# Altium footprint library SMD SMD-Series.PcbLib: 12 footprints
Each footprint in its own frame and in the unit in brackets; x right, y up, seen from the top. Pads: shape width x height; smd on the part's side, far side on the other; paste and mask are expansions set on the pad; w line width, h text height; cw(c..) or ccw(c..) is an arc to the next point about the centre after c.
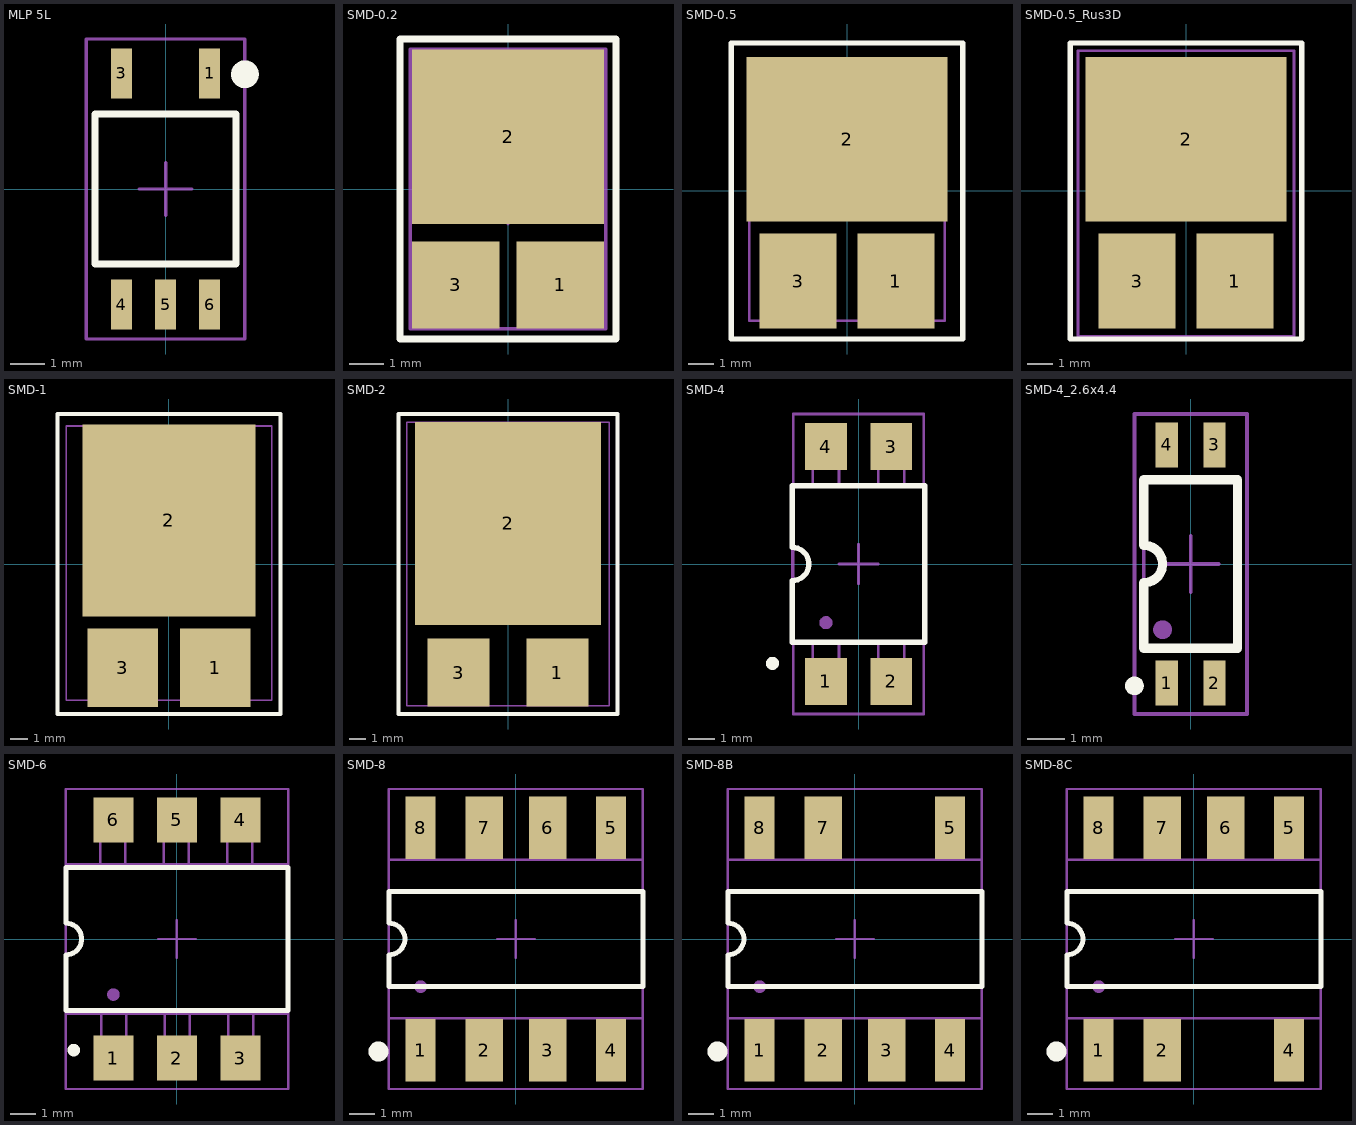
[diagram p0: the footprints below, top view; thin cyan lines are the x and y axes]

## MLP 5L [mm]
height 2.4
pads (5):
  rect 0.61x1.45 smd: 1(1.27,3.325) 3(-1.27,3.325) 4(-1.27,-3.325) 5(0,-3.325) 6(1.27,-3.325)
Top Overlay:
  circle w0.4: c2.286,3.302 r0.2
  lines w0.2: -2.032,-2.159 -2.032,2.159 2.032,2.159 2.032,-2.159 -2.032,-2.159
Mechanical 7:
  text ".Designator" at -1.016,-0.508 h1.5
Mechanical 15:
  lines w0.1: -0.75,0 0.75,0 ; 0,-0.75 0,0.75 ; -2.286,-4.318 -2.286,4.318 2.286,4.318 2.286,-4.318 -2.286,-4.318
3D body "MLP_5L.STEP": height 2.13, standoff 0, extent -2.05,-3.5 2.05,3.5

## SMD-0.2 [mm]
height 3.06
pads (3):
  rect 2.5x2.5 smd: 1(1.5,-2.75) 3(-1.5,-2.75)
  rect 5.5x5 smd: 2(0,1.5)
Top Overlay:
  lines w0.2: -3.1,-4.3 -3.1,4.3 3.1,4.3 3.1,-4.3 -3.1,-4.3
Mechanical 7:
  lines w0.05: -3.1,-4.3 3.1,-4.3 3.1,4.3 -3.1,4.3 -3.1,-4.3
  text ".Designator" at -2,-0.5 h1.5
Mechanical 13:
  lines w0.1: -2.8,-4 -2.8,4 2.8,4 2.8,-4 -2.8,-4
  text "Check!" at -3.75,-0.5 h1.52
Mechanical 15:
  lines w0.1: -1,0 1,0 ; 0,-1 0,1 ; -3.1,-4.3 3.1,-4.3 3.1,4.3 -3.1,4.3 -3.1,-4.3
3D body "User Library-International Rectifier Case SMD-02 model.step": height 2.5, standoff -0.02, extent -2.875,-4.075 2.865,4.075

## SMD-0.5 [mm] "室-93"
height 3.06
pads (3):
  rect 3x3.7 smd: 1(1.905,-3.51) 3(-1.905,-3.51)
  rect 7.8x6.4 smd: 2(0,2.01)
Top Overlay:
  lines w0.2: -4.5,-5.76 4.5,-5.76 4.5,5.75 -4.5,5.75 -4.5,-5.76
Mechanical 7:
  lines w0.05: -4.5,-5.76 4.5,-5.76 4.5,5.75 -4.5,5.75 -4.5,-5.76
  text ".Designator" at -2,-0.5 h1.5
Mechanical 13:
  lines w0.1: -3.8,-5.05 3.8,-5.05 3.8,5.05 -3.8,5.05 -3.8,-5.05
Mechanical 15:
  lines w0.1: -1,0 1,0 ; 0,-1 0,1 ; -4.5,-5.75 -4.5,5.75 4.5,5.75 4.5,-5.75 -4.5,-5.75
3D body "User Library-IR_SMD_0_5.STEP": height 3.1, standoff -0.02, extent -3.76,-5.08 3.76,5.08

## SMD-0.5_Rus3D [mm] "室-93"
height 3.06
pads (3):
  rect 3x3.7 smd: 1(1.905,-3.51) 3(-1.905,-3.51)
  rect 7.8x6.4 smd: 2(0,2.01)
Top Overlay:
  lines w0.2: -4.5,-5.76 -4.5,5.75 4.5,5.75 4.5,-5.76 -4.5,-5.76
Mechanical 7:
  lines w0.05: -4.5,-5.76 4.5,-5.76 4.5,5.75 -4.5,5.75 -4.5,-5.76
  text ".Designator" at -2,-0.5 h1.5
Mechanical 13:
  lines w0.1: -4.2,-5.65 4.2,-5.65 4.2,5.45 -4.2,5.45 -4.2,-5.65
Mechanical 15:
  lines w0.1: -1,0 1,0 ; 0,-1 0,1 ; -4.5,-5.75 -4.5,5.75 4.5,5.75 4.5,-5.75 -4.5,-5.75
3D body: height 0.4, standoff 0, extent 0.5,-5.5 3.5,-1.75
3D body: height 0.4, standoff 0, extent -3.5,-5.5 -0.5,-1.75
3D body: height 3, standoff 0.4, extent -4.25,-5.75 4.25,5.5
3D body: height 0.4, standoff 0, extent -4,-1.25 4,5.25
3D body: height 3.05, standoff 3, extent -4.25,-5.75 4.25,5.5
3D body: height 3.4, standoff 3.05, extent -4.25,-5.75 4.25,5.5
3D body: height 3.6, standoff 3.4, extent -4.25,-5.75 4.25,5.5

## SMD-1 [mm] "室-94"
height 3.6
pads (3):
  rect 4.1x4.6 smd: 1(2.7,-6.05) 3(-2.7,-6.05)
  rect 10.1x11.2 smd: 2(0,2.55)
Top Overlay:
  lines w0.25: -6.5,-8.75 -6.5,8.75 6.5,8.75 6.5,-8.75 -6.5,-8.75
Mechanical 7:
  lines w0.05: -6.5,-8.75 -6.5,8.75 6.5,8.75 6.5,-8.75 -6.5,-8.75
  text ".Designator" at -2.5,0 h1.5
Mechanical 13:
  lines w0.1: -6,-7.95 6,-7.95 6,8.05 -6,8.05 -6,-7.95
Mechanical 15:
  lines w0.1: -1,0 1,0 ; 0,-1 0,1 ; -6.5,-8.75 -6.5,8.75 6.5,8.75 6.5,-8.75 -6.5,-8.75
3D body "室-94.STEP": height 3.6, standoff 0, extent -5.75,-8 5.83,8

## SMD-2 [mm] "室-95"
height 3.6
pads (3):
  rect 3.8x4.2 smd: 1(3.05,-6.7) 3(-3.05,-6.7)
  rect 11.5x12.5 smd: 2(0,2.5)
Top Overlay:
  lines w0.25: -6.75,-9.25 -6.75,9.25 6.75,9.25 6.75,-9.25 -6.75,-9.25
Mechanical 7:
  lines w0.05: -6.75,-9.25 6.75,-9.25 6.75,9.25 -6.75,9.25 -6.75,-9.25
  text ".Designator" at -2.5,0 h1.5
Mechanical 13:
  lines w0.1: -6.25,-8.75 6.25,-8.75 6.25,8.75 -6.25,8.75 -6.25,-8.75
Mechanical 15:
  lines w0.1: -1,0 1,0 ; 0,-1 0,1 ; -6.75,-9.25 6.75,-9.25 6.75,9.25 -6.75,9.25 -6.75,-9.25
3D body "User Library-KT-95-1.step": height 3.6, standoff 0, extent -6.7,-8.8 6.7,8.8

## SMD-4 [mm]
height 4.58
pads (4):
  rect 1.6x1.8 smd: 1(-1.25,-4.5) 2(1.25,-4.5) 3(1.25,4.5) 4(-1.25,4.5)
Top Overlay:
  circle w0.25: c-3.3,-3.81 r0.125
  lines w0.2: -2.54,-3 -2.54,-0.635 ccw(c-2.54,0) -2.54,0.635 -2.54,3 2.54,3 2.54,-3 -2.54,-3
Mechanical 7:
  lines w0.05: -2.5,-5.75 -2.5,5.75 2.5,5.75 2.5,-5.75 -2.5,-5.75
  text ".Designator" at -2.25,-0.25 h1.5
Mechanical 13:
  circle w0.25: c-1.25,-2.25 r0.125
  lines w0.1: -1.75,-3 -1.75,-4.75 -0.75,-4.75 -0.75,-3 ; -1.75,3 -1.75,4.75 -0.75,4.75 -0.75,3 ; 0.75,-3 0.75,-4.75 1.75,-4.75 1.75,-3 ; 0.75,3 0.75,4.75 1.75,4.75 1.75,3 ; -2.54,-3 -2.54,3 2.54,3 2.54,-3 -2.54,-3
Mechanical 15:
  lines w0.1: -0.75,0 0.75,0 ; 0,-0.75 0,0.75 ; -2.5,-5.75 2.5,-5.75 2.5,5.75 -2.5,5.75 -2.5,-5.75
3D body "User Library-PC817_Gullwing.STEP": height 3.85, standoff 0, extent -2.29,-5 2.29,5

## SMD-4_2.6x4.4 [mm]
height 2
pads (4):
  rect 0.6x1.2 smd: 1(-0.635,-3.175) 2(0.635,-3.175) 3(0.635,3.175) 4(-0.635,3.175)
Top Overlay:
  circle w0.25: c-1.5,-3.25 r0.125
  lines w0.25: -1.25,-2.25 -1.25,-0.5 ccw(c-1.25,0) -1.25,0.5 -1.25,2.25 1.25,2.25 1.25,-2.25 -1.25,-2.25
Mechanical 7:
  lines w0.05: -1.5,-4 -1.5,4 1.5,4 1.5,-4 -1.5,-4
  text ".Designator" at -1.25,-0.25 h1.2
Mechanical 13:
  circle w0.25: c-0.75,-1.75 r0.125
  lines w0.1: -1.25,-2.25 -1.25,2.25 1.25,2.25 1.25,-2.25 -1.25,-2.25
Mechanical 15:
  lines w0.1: -0.75,0 0.75,0 ; 0,-0.75 0,0.75 ; -1.5,-4 1.5,-4 1.5,4 -1.5,4 -1.5,-4
3D body "User Library-PC3H7.step": height 2.02, standoff -0.03, extent -1.3,-3.5 1.3,3.5

## SMD-6 [mm]
height 4.58
pads (6):
  rect 1.6x1.8 smd: 1(-2.54,-4.763) 2(0,-4.763) 3(2.54,-4.763) 4(2.54,4.763) 5(0,4.763) 6(-2.54,4.763)
Top Overlay:
  circle w0.25: c-4.127,-4.445 r0.125
  lines w0.2: -4.445,-2.857 -4.445,-0.635 ccw(c-4.445,0) -4.445,0.635 -4.445,2.857 4.445,2.857 4.445,-2.857 -4.445,-2.857
Mechanical 7:
  lines w0.05: -4.445,-6 -4.445,6 4.445,6 4.445,-6 -4.445,-6
  text ".Designator" at -2.25,-0.25 h1.5
Mechanical 13:
  circle w0.25: c-2.54,-2.222 r0.125
  lines w0.1: -3.06,3 -3.06,4.75 -2.06,4.75 -2.06,3 ; -3.02,-3 -3.02,-4.75 -2.02,-4.75 -2.02,-3 ; -0.52,3 -0.52,4.75 0.48,4.75 0.48,3 ; -0.48,-3 -0.48,-4.75 0.52,-4.75 0.52,-3 ; 2.02,3 2.02,4.75 3.02,4.75 3.02,3 ; 2.06,-3 2.06,-4.75 3.06,-4.75 3.06,-3 ; -4.445,-3 -4.445,3 4.445,3 4.445,-3 -4.445,-3
Mechanical 15:
  lines w0.1: -0.75,0 0.75,0 ; 0,-0.75 0,0.75 ; -4.445,-6 4.445,-6 4.445,6 -4.445,6 -4.445,-6
3D body "User Library-PC817_Gullwing.STEP": height 3.85, standoff 0, extent -1.02,-5 3.56,5
3D body "User Library-PC817_Gullwing.STEP": height 3.85, standoff 0, extent -3.56,-5 1.02,5

## SMD-8 [mm]
height 4.58
pads (8):
  rect 1.2x2.5 smd: 1(-3.81,-4.445) 4(3.81,-4.445) 5(3.81,4.445) 8(-3.81,4.445)
  rect 1.5x2.5 smd: 2(-1.27,-4.445) 3(1.27,-4.445) 6(1.27,4.445) 7(-1.27,4.445)
Top Overlay:
  circle w0.4: c-5.5,-4.5 r0.2
  lines w0.2: -5.08,-1.905 5.08,-1.905 5.08,1.905 -5.08,1.905 -5.08,0.635 cw(c-5.08,0) -5.08,-0.635 -5.08,-1.905
Mechanical 7:
  lines w0.05: -5.08,-6 -5.08,6 5.08,6 5.08,-6 -5.08,-6
  text ".Designator" at -2.25,-0.25 h1.5
Mechanical 13:
  circle w0.25: c-3.81,-1.905 r0.125
  lines w0.1: -5.08,-3.175 -5.08,3.175 5.08,3.175 5.08,-3.175 -5.08,-3.175
Mechanical 15:
  lines w0.1: -0.75,0 0.75,0 ; 0,-0.75 0,0.75 ; -5.08,-6 -5.08,6 5.08,6 5.08,-6 -5.08,-6
3D body "User Library-pdip8-smd.step": height 5.08, standoff 0, extent -4.955,-5.15 4.955,5.15

## SMD-8B [mm]
height 4.58
pads (7):
  rect 1.2x2.5 smd: 1(-3.81,-4.445) 4(3.81,-4.445) 5(3.81,4.445) 8(-3.81,4.445)
  rect 1.5x2.5 smd: 2(-1.27,-4.445) 3(1.27,-4.445) 7(-1.27,4.445)
Top Overlay:
  circle w0.4: c-5.5,-4.5 r0.2
  lines w0.2: -5.08,-1.905 5.08,-1.905 5.08,1.905 -5.08,1.905 -5.08,0.635 cw(c-5.08,0) -5.08,-0.635 -5.08,-1.905
Mechanical 7:
  lines w0.05: -5.08,-6 5.08,-6 5.08,6 -5.08,6 -5.08,-6
  text ".Designator" at -2.25,-0.25 h1.5
Mechanical 13:
  circle w0.25: c-3.81,-1.905 r0.125
  lines w0.1: -5.08,-3.175 -5.08,3.175 5.08,3.175 5.08,-3.175 -5.08,-3.175
Mechanical 15:
  lines w0.1: -0.75,0 0.75,0 ; 0,-0.75 0,0.75 ; -5.08,-6 -5.08,6 5.08,6 5.08,-6 -5.08,-6
3D body "User Library-SMD-8B.step": height 4, standoff 0, extent -4.925,-5 4.925,4.8

## SMD-8C [mm]
height 4.58
pads (7):
  rect 1.2x2.5 smd: 1(-3.81,-4.445) 4(3.81,-4.445) 5(3.81,4.445) 8(-3.81,4.445)
  rect 1.5x2.5 smd: 2(-1.27,-4.445) 6(1.27,4.445) 7(-1.27,4.445)
Top Overlay:
  circle w0.4: c-5.5,-4.5 r0.2
  lines w0.2: -5.08,-1.905 -5.08,-0.635 ccw(c-5.08,0) -5.08,0.635 -5.08,1.905 5.08,1.905 5.08,-1.905 -5.08,-1.905
Mechanical 7:
  lines w0.05: -5.08,-6 5.08,-6 5.08,6 -5.08,6 -5.08,-6
  text ".Designator" at -2.25,-0.25 h1.5
Mechanical 13:
  circle w0.25: c-3.81,-1.905 r0.125
  lines w0.1: -5.08,-3.175 5.08,-3.175 5.08,3.175 -5.08,3.175 -5.08,-3.175
Mechanical 15:
  lines w0.1: -0.75,0 0.75,0 ; 0,-0.75 0,0.75 ; -5.08,-6 5.08,-6 5.08,6 -5.08,6 -5.08,-6
3D body: height 4.5, standoff 0.3, extent -5,-3 5,3.25